# Altium integrated library Celestial Library.IntLib: 629 symbols (part 13 of 28)

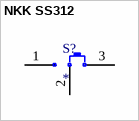
[diagram p276: symbol NKK SS312]

## NKK SS312
designator S?
pins: 1, 2 COM, 3


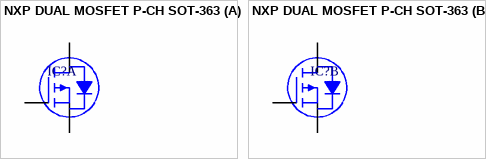
[diagram p277: symbol NXP DUAL MOSFET P-CH SOT-363]

## NXP DUAL MOSFET P-CH SOT-363
designator IC?
part A pins: 1 S1, 2 G1, 6 D1
part B pins: 3 D2, 4 S2, 5 G2


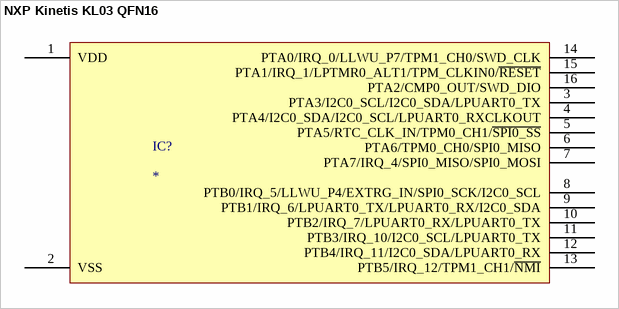
[diagram p278: symbol NXP Kinetis KL03 QFN16]

## NXP Kinetis KL03 QFN16
designator IC?
pins: 1 VDD, 2 VSS, 3 PTA3/I2C0_SCL/I2C0_SDA/LPUART0_TX, 4 PTA4/I2C0_SDA/I2C0_SCL/LPUART0_RXCLKOUT, 5 PTA5/RTC_CLK_IN/TPM0_CH1/~{SPI0_SS}, 6 PTA6/TPM0_CH0/SPI0_MISO, 7 PTA7/IRQ_4/SPI0_MISO/SPI0_MOSI, 8 PTB0/IRQ_5/LLWU_P4/EXTRG_IN/SPI0_SCK/I2C0_SCL, 9 PTB1/IRQ_6/LPUART0_TX/LPUART0_RX/I2C0_SDA, 10 PTB2/IRQ_7/LPUART0_RX/LPUART0_TX, 11 PTB3/IRQ_10/I2C0_SCL/LPUART0_TX, 12 PTB4/IRQ_11/I2C0_SDA/LPUART0_RX, 13 PTB5/IRQ_12/TPM1_CH1/~{NMI}, 14 PTA0/IRQ_0/LLWU_P7/TPM1_CH0/SWD_CLK, 15 PTA1/IRQ_1/LPTMR0_ALT1/TPM_CLKIN0/~{RESET}, 16 PTA2/CMP0_OUT/SWD_DIO


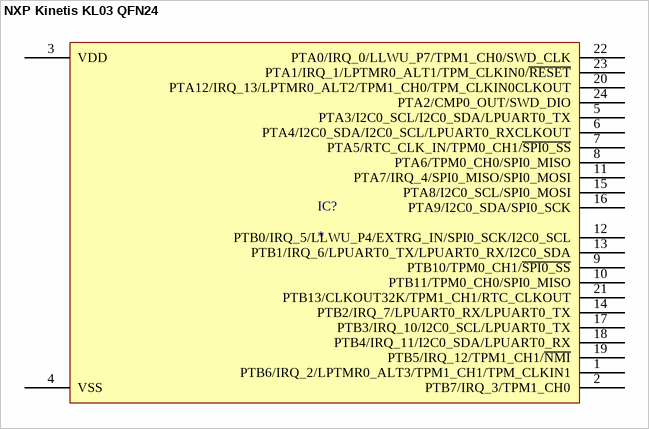
[diagram p279: symbol NXP Kinetis KL03 QFN24]

## NXP Kinetis KL03 QFN24
designator IC?
pins: 1 PTB6/IRQ_2/LPTMR0_ALT3/TPM1_CH1/TPM_CLKIN1, 2 PTB7/IRQ_3/TPM1_CH0, 3 VDD, 4 VSS, 5 PTA3/I2C0_SCL/I2C0_SDA/LPUART0_TX, 6 PTA4/I2C0_SDA/I2C0_SCL/LPUART0_RXCLKOUT, 7 PTA5/RTC_CLK_IN/TPM0_CH1/~{SPI0_SS}, 8 PTA6/TPM0_CH0/SPI0_MISO, 9 PTB10/TPM0_CH1/~{SPI0_SS}, 10 PTB11/TPM0_CH0/SPI0_MISO, 11 PTA7/IRQ_4/SPI0_MISO/SPI0_MOSI, 12 PTB0/IRQ_5/LLWU_P4/EXTRG_IN/SPI0_SCK/I2C0_SCL, 13 PTB1/IRQ_6/LPUART0_TX/LPUART0_RX/I2C0_SDA, 14 PTB2/IRQ_7/LPUART0_RX/LPUART0_TX, 15 PTA8/I2C0_SCL/SPI0_MOSI, 16 PTA9/I2C0_SDA/SPI0_SCK, 17 PTB3/IRQ_10/I2C0_SCL/LPUART0_TX, 18 PTB4/IRQ_11/I2C0_SDA/LPUART0_RX, 19 PTB5/IRQ_12/TPM1_CH1/~{NMI}, 20 PTA12/IRQ_13/LPTMR0_ALT2/TPM1_CH0/TPM_CLKIN0CLKOUT, 21 PTB13/CLKOUT32K/TPM1_CH1/RTC_CLKOUT, 22 PTA0/IRQ_0/LLWU_P7/TPM1_CH0/SWD_CLK, 23 PTA1/IRQ_1/LPTMR0_ALT1/TPM_CLKIN0/~{RESET}, 24 PTA2/CMP0_OUT/SWD_DIO


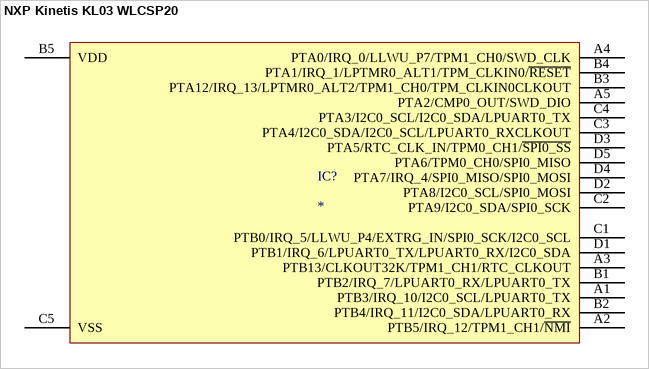
[diagram p280: symbol NXP Kinetis KL03 WLCSP20]

## NXP Kinetis KL03 WLCSP20
designator IC?
pins: A1 PTB3/IRQ_10/I2C0_SCL/LPUART0_TX, A2 PTB5/IRQ_12/TPM1_CH1/~{NMI}, A3 PTB13/CLKOUT32K/TPM1_CH1/RTC_CLKOUT, A4 PTA0/IRQ_0/LLWU_P7/TPM1_CH0/SWD_CLK, A5 PTA2/CMP0_OUT/SWD_DIO, B1 PTB2/IRQ_7/LPUART0_RX/LPUART0_TX, B2 PTB4/IRQ_11/I2C0_SDA/LPUART0_RX, B3 PTA12/IRQ_13/LPTMR0_ALT2/TPM1_CH0/TPM_CLKIN0CLKOUT, B4 PTA1/IRQ_1/LPTMR0_ALT1/TPM_CLKIN0/~{RESET}, B5 VDD, C1 PTB0/IRQ_5/LLWU_P4/EXTRG_IN/SPI0_SCK/I2C0_SCL, C2 PTA9/I2C0_SDA/SPI0_SCK, C3 PTA4/I2C0_SDA/I2C0_SCL/LPUART0_RXCLKOUT, C4 PTA3/I2C0_SCL/I2C0_SDA/LPUART0_TX, C5 VSS, D1 PTB1/IRQ_6/LPUART0_TX/LPUART0_RX/I2C0_SDA, D2 PTA8/I2C0_SCL/SPI0_MOSI, D3 PTA5/RTC_CLK_IN/TPM0_CH1/~{SPI0_SS}, D4 PTA7/IRQ_4/SPI0_MISO/SPI0_MOSI, D5 PTA6/TPM0_CH0/SPI0_MISO


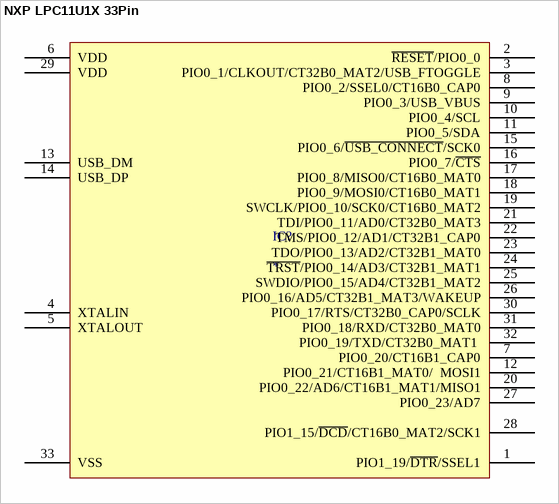
[diagram p281: symbol NXP LPC11U1X 33Pin]

## NXP LPC11U1X 33Pin
designator IC?
pins: 1 PIO1_19/~{DTR}/SSEL1, 2 ~{RESET}/PIO0_0, 3 PIO0_1/CLKOUT/CT32B0_MAT2/USB_FTOGGLE, 4 XTALIN, 5 XTALOUT, 6 VDD, 7 PIO0_20/CT16B1_CAP0, 8 PIO0_2/SSEL0/CT16B0_CAP0, 9 PIO0_3/USB_VBUS, 10 PIO0_4/SCL, 11 PIO0_5/SDA, 12 PIO0_21/CT16B1_MAT0/  MOSI1, 13 USB_DM, 14 USB_DP, 15 PIO0_6/~{USB_CONNECT}/SCK0, 16 PIO0_7/~{CTS}, 17 PIO0_8/MISO0/CT16B0_MAT0, 18 PIO0_9/MOSI0/CT16B0_MAT1, 19 SWCLK/PIO0_10/SCK0/CT16B0_MAT2, 20 PIO0_22/AD6/CT16B1_MAT1/MISO1, 21 TDI/PIO0_11/AD0/CT32B0_MAT3, 22 TMS/PIO0_12/AD1/CT32B1_CAP0, 23 TDO/PIO0_13/AD2/CT32B1_MAT0, 24 ~{TRST}/PIO0_14/AD3/CT32B1_MAT1, 25 SWDIO/PIO0_15/AD4/CT32B1_MAT2, 26 PIO0_16/AD5/CT32B1_MAT3/WAKEUP, 27 PIO0_23/AD7, 28 PIO1_15/~{DCD}/CT16B0_MAT2/SCK1, 29 VDD, 30 PIO0_17/RTS/CT32B0_CAP0/SCLK, 31 PIO0_18/RXD/CT32B0_MAT0, 32 PIO0_19/TXD/CT32B0_MAT1 , 33 VSS


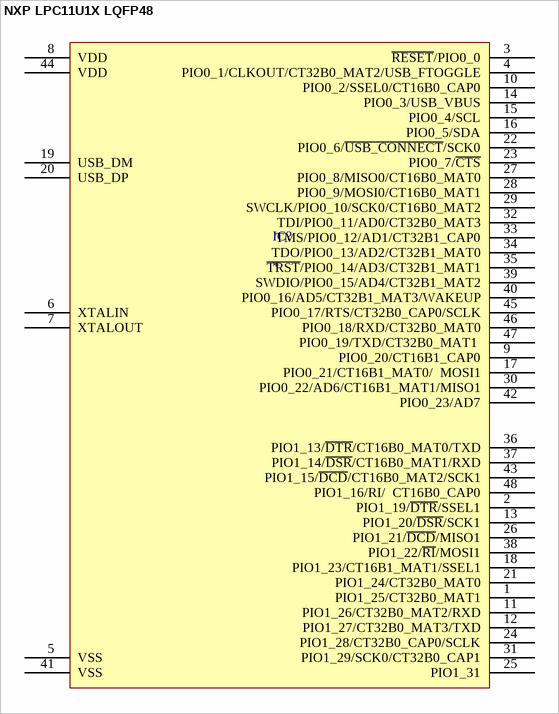
[diagram p282: symbol NXP LPC11U1X LQFP48]

## NXP LPC11U1X LQFP48
designator IC?
pins: 1 PIO1_25/CT32B0_MAT1, 2 PIO1_19/~{DTR}/SSEL1, 3 ~{RESET}/PIO0_0, 4 PIO0_1/CLKOUT/CT32B0_MAT2/USB_FTOGGLE, 5 VSS, 6 XTALIN, 7 XTALOUT, 8 VDD, 9 PIO0_20/CT16B1_CAP0, 10 PIO0_2/SSEL0/CT16B0_CAP0, 11 PIO1_26/CT32B0_MAT2/RXD, 12 PIO1_27/CT32B0_MAT3/TXD, 13 PIO1_20/~{DSR}/SCK1, 14 PIO0_3/USB_VBUS, 15 PIO0_4/SCL, 16 PIO0_5/SDA, 17 PIO0_21/CT16B1_MAT0/  MOSI1, 18 PIO1_23/CT16B1_MAT1/SSEL1, 19 USB_DM, 20 USB_DP, 21 PIO1_24/CT32B0_MAT0, 22 PIO0_6/~{USB_CONNECT}/SCK0, 23 PIO0_7/~{CTS}, 24 PIO1_28/CT32B0_CAP0/SCLK, 25 PIO1_31, 26 PIO1_21/~{DCD}/MISO1, 27 PIO0_8/MISO0/CT16B0_MAT0, 28 PIO0_9/MOSI0/CT16B0_MAT1, 29 SWCLK/PIO0_10/SCK0/CT16B0_MAT2, 30 PIO0_22/AD6/CT16B1_MAT1/MISO1, 31 PIO1_29/SCK0/CT32B0_CAP1, 32 TDI/PIO0_11/AD0/CT32B0_MAT3, 33 TMS/PIO0_12/AD1/CT32B1_CAP0, 34 TDO/PIO0_13/AD2/CT32B1_MAT0, 35 ~{TRST}/PIO0_14/AD3/CT32B1_MAT1, 36 PIO1_13/~{DTR}/CT16B0_MAT0/TXD, 37 PIO1_14/~{DSR}/CT16B0_MAT1/RXD, 38 PIO1_22/~{RI}/MOSI1, 39 SWDIO/PIO0_15/AD4/CT32B1_MAT2, 40 PIO0_16/AD5/CT32B1_MAT3/WAKEUP, 41 VSS, 42 PIO0_23/AD7, 43 PIO1_15/~{DCD}/CT16B0_MAT2/SCK1, 44 VDD, 45 PIO0_17/RTS/CT32B0_CAP0/SCLK, 46 PIO0_18/RXD/CT32B0_MAT0, 47 PIO0_19/TXD/CT32B0_MAT1 , 48 PIO1_16/RI/  CT16B0_CAP0


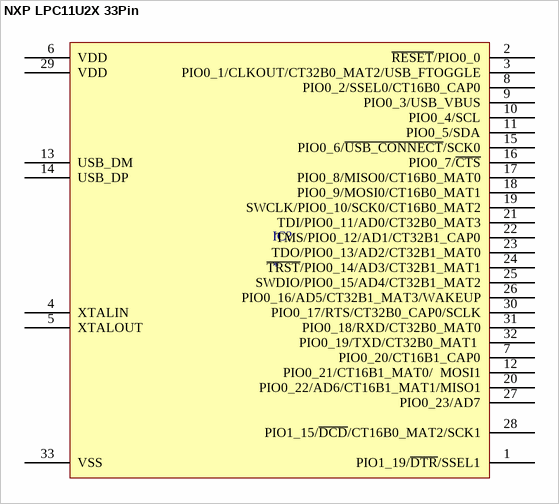
[diagram p283: symbol NXP LPC11U2X 33Pin]

## NXP LPC11U2X 33Pin
designator IC?
pins: 1 PIO1_19/~{DTR}/SSEL1, 2 ~{RESET}/PIO0_0, 3 PIO0_1/CLKOUT/CT32B0_MAT2/USB_FTOGGLE, 4 XTALIN, 5 XTALOUT, 6 VDD, 7 PIO0_20/CT16B1_CAP0, 8 PIO0_2/SSEL0/CT16B0_CAP0, 9 PIO0_3/USB_VBUS, 10 PIO0_4/SCL, 11 PIO0_5/SDA, 12 PIO0_21/CT16B1_MAT0/  MOSI1, 13 USB_DM, 14 USB_DP, 15 PIO0_6/~{USB_CONNECT}/SCK0, 16 PIO0_7/~{CTS}, 17 PIO0_8/MISO0/CT16B0_MAT0, 18 PIO0_9/MOSI0/CT16B0_MAT1, 19 SWCLK/PIO0_10/SCK0/CT16B0_MAT2, 20 PIO0_22/AD6/CT16B1_MAT1/MISO1, 21 TDI/PIO0_11/AD0/CT32B0_MAT3, 22 TMS/PIO0_12/AD1/CT32B1_CAP0, 23 TDO/PIO0_13/AD2/CT32B1_MAT0, 24 ~{TRST}/PIO0_14/AD3/CT32B1_MAT1, 25 SWDIO/PIO0_15/AD4/CT32B1_MAT2, 26 PIO0_16/AD5/CT32B1_MAT3/WAKEUP, 27 PIO0_23/AD7, 28 PIO1_15/~{DCD}/CT16B0_MAT2/SCK1, 29 VDD, 30 PIO0_17/RTS/CT32B0_CAP0/SCLK, 31 PIO0_18/RXD/CT32B0_MAT0, 32 PIO0_19/TXD/CT32B0_MAT1 , 33 VSS


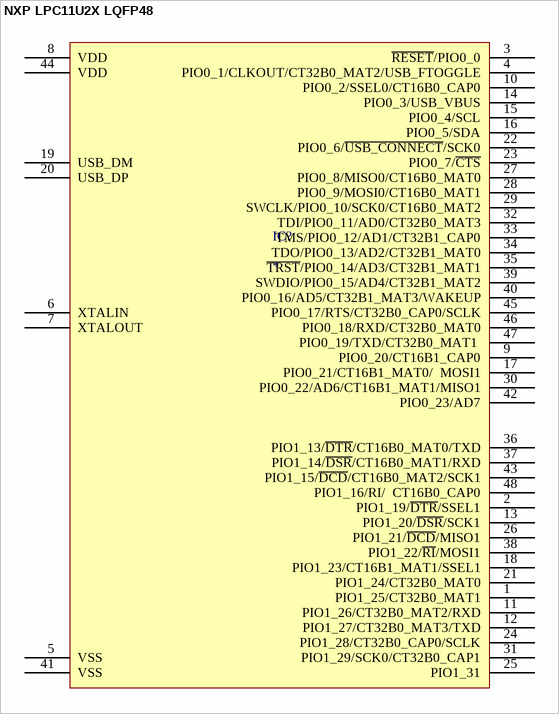
[diagram p284: symbol NXP LPC11U2X LQFP48]

## NXP LPC11U2X LQFP48
designator IC?
pins: 1 PIO1_25/CT32B0_MAT1, 2 PIO1_19/~{DTR}/SSEL1, 3 ~{RESET}/PIO0_0, 4 PIO0_1/CLKOUT/CT32B0_MAT2/USB_FTOGGLE, 5 VSS, 6 XTALIN, 7 XTALOUT, 8 VDD, 9 PIO0_20/CT16B1_CAP0, 10 PIO0_2/SSEL0/CT16B0_CAP0, 11 PIO1_26/CT32B0_MAT2/RXD, 12 PIO1_27/CT32B0_MAT3/TXD, 13 PIO1_20/~{DSR}/SCK1, 14 PIO0_3/USB_VBUS, 15 PIO0_4/SCL, 16 PIO0_5/SDA, 17 PIO0_21/CT16B1_MAT0/  MOSI1, 18 PIO1_23/CT16B1_MAT1/SSEL1, 19 USB_DM, 20 USB_DP, 21 PIO1_24/CT32B0_MAT0, 22 PIO0_6/~{USB_CONNECT}/SCK0, 23 PIO0_7/~{CTS}, 24 PIO1_28/CT32B0_CAP0/SCLK, 25 PIO1_31, 26 PIO1_21/~{DCD}/MISO1, 27 PIO0_8/MISO0/CT16B0_MAT0, 28 PIO0_9/MOSI0/CT16B0_MAT1, 29 SWCLK/PIO0_10/SCK0/CT16B0_MAT2, 30 PIO0_22/AD6/CT16B1_MAT1/MISO1, 31 PIO1_29/SCK0/CT32B0_CAP1, 32 TDI/PIO0_11/AD0/CT32B0_MAT3, 33 TMS/PIO0_12/AD1/CT32B1_CAP0, 34 TDO/PIO0_13/AD2/CT32B1_MAT0, 35 ~{TRST}/PIO0_14/AD3/CT32B1_MAT1, 36 PIO1_13/~{DTR}/CT16B0_MAT0/TXD, 37 PIO1_14/~{DSR}/CT16B0_MAT1/RXD, 38 PIO1_22/~{RI}/MOSI1, 39 SWDIO/PIO0_15/AD4/CT32B1_MAT2, 40 PIO0_16/AD5/CT32B1_MAT3/WAKEUP, 41 VSS, 42 PIO0_23/AD7, 43 PIO1_15/~{DCD}/CT16B0_MAT2/SCK1, 44 VDD, 45 PIO0_17/RTS/CT32B0_CAP0/SCLK, 46 PIO0_18/RXD/CT32B0_MAT0, 47 PIO0_19/TXD/CT32B0_MAT1 , 48 PIO1_16/RI/  CT16B0_CAP0


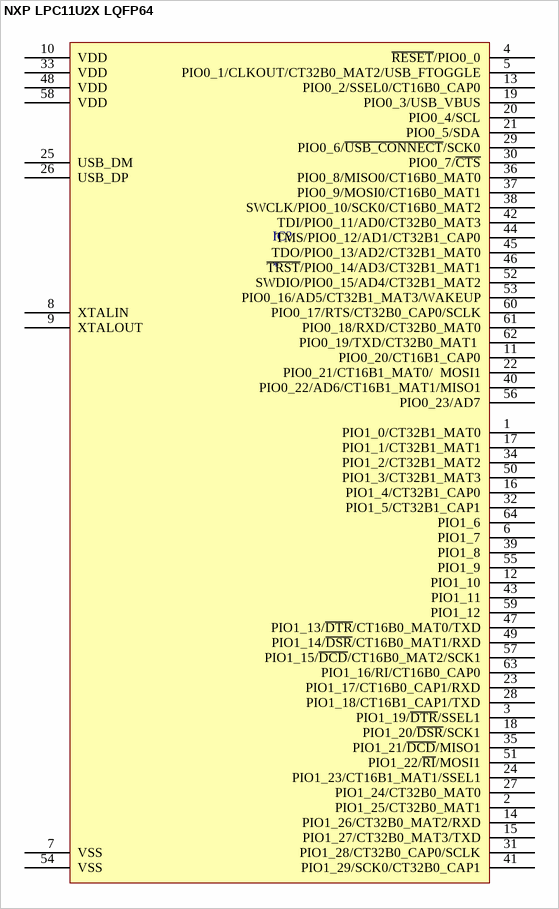
[diagram p285: symbol NXP LPC11U2X LQFP64]

## NXP LPC11U2X LQFP64
designator IC?
pins: 1 PIO1_0/CT32B1_MAT0, 2 PIO1_25/CT32B0_MAT1, 3 PIO1_19/~{DTR}/SSEL1, 4 ~{RESET}/PIO0_0, 5 PIO0_1/CLKOUT/CT32B0_MAT2/USB_FTOGGLE, 6 PIO1_7, 7 VSS, 8 XTALIN, 9 XTALOUT, 10 VDD, 11 PIO0_20/CT16B1_CAP0, 12 PIO1_10, 13 PIO0_2/SSEL0/CT16B0_CAP0, 14 PIO1_26/CT32B0_MAT2/RXD, 15 PIO1_27/CT32B0_MAT3/TXD, 16 PIO1_4/CT32B1_CAP0, 17 PIO1_1/CT32B1_MAT1, 18 PIO1_20/~{DSR}/SCK1, 19 PIO0_3/USB_VBUS, 20 PIO0_4/SCL, 21 PIO0_5/SDA, 22 PIO0_21/CT16B1_MAT0/  MOSI1, 23 PIO1_17/CT16B0_CAP1/RXD, 24 PIO1_23/CT16B1_MAT1/SSEL1, 25 USB_DM, 26 USB_DP, 27 PIO1_24/CT32B0_MAT0, 28 PIO1_18/CT16B1_CAP1/TXD, 29 PIO0_6/~{USB_CONNECT}/SCK0, 30 PIO0_7/~{CTS}, 31 PIO1_28/CT32B0_CAP0/SCLK, 32 PIO1_5/CT32B1_CAP1, 33 VDD, 34 PIO1_2/CT32B1_MAT2, 35 PIO1_21/~{DCD}/MISO1, 36 PIO0_8/MISO0/CT16B0_MAT0, 37 PIO0_9/MOSI0/CT16B0_MAT1, 38 SWCLK/PIO0_10/SCK0/CT16B0_MAT2, 39 PIO1_8, 40 PIO0_22/AD6/CT16B1_MAT1/MISO1, 41 PIO1_29/SCK0/CT32B0_CAP1, 42 TDI/PIO0_11/AD0/CT32B0_MAT3, 43 PIO1_11, 44 TMS/PIO0_12/AD1/CT32B1_CAP0, 45 TDO/PIO0_13/AD2/CT32B1_MAT0, 46 ~{TRST}/PIO0_14/AD3/CT32B1_MAT1, 47 PIO1_13/~{DTR}/CT16B0_MAT0/TXD, 48 VDD, 49 PIO1_14/~{DSR}/CT16B0_MAT1/RXD, 50 PIO1_3/CT32B1_MAT3, 51 PIO1_22/~{RI}/MOSI1, 52 SWDIO/PIO0_15/AD4/CT32B1_MAT2, 53 PIO0_16/AD5/CT32B1_MAT3/WAKEUP, 54 VSS, 55 PIO1_9, 56 PIO0_23/AD7, 57 PIO1_15/~{DCD}/CT16B0_MAT2/SCK1, 58 VDD, 59 PIO1_12, 60 PIO0_17/RTS/CT32B0_CAP0/SCLK, 61 PIO0_18/RXD/CT32B0_MAT0, 62 PIO0_19/TXD/CT32B0_MAT1 , 63 PIO1_16/RI/CT16B0_CAP0, 64 PIO1_6


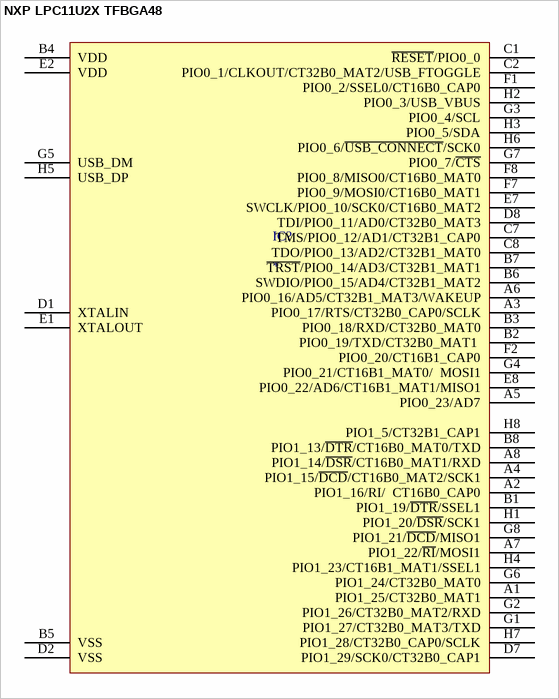
[diagram p286: symbol NXP LPC11U2X TFBGA48]

## NXP LPC11U2X TFBGA48
designator IC?
pins: A1 PIO1_25/CT32B0_MAT1, A2 PIO1_16/RI/  CT16B0_CAP0, A3 PIO0_17/RTS/CT32B0_CAP0/SCLK, A4 PIO1_15/~{DCD}/CT16B0_MAT2/SCK1, A5 PIO0_23/AD7, A6 PIO0_16/AD5/CT32B1_MAT3/WAKEUP, A7 PIO1_22/~{RI}/MOSI1, A8 PIO1_14/~{DSR}/CT16B0_MAT1/RXD, B1 PIO1_19/~{DTR}/SSEL1, B2 PIO0_19/TXD/CT32B0_MAT1 , B3 PIO0_18/RXD/CT32B0_MAT0, B4 VDD, B5 VSS, B6 SWDIO/PIO0_15/AD4/CT32B1_MAT2, B7 ~{TRST}/PIO0_14/AD3/CT32B1_MAT1, B8 PIO1_13/~{DTR}/CT16B0_MAT0/TXD, C1 ~{RESET}/PIO0_0, C2 PIO0_1/CLKOUT/CT32B0_MAT2/USB_FTOGGLE, C7 TMS/PIO0_12/AD1/CT32B1_CAP0, C8 TDO/PIO0_13/AD2/CT32B1_MAT0, D1 XTALIN, D2 VSS, D7 PIO1_29/SCK0/CT32B0_CAP1, D8 TDI/PIO0_11/AD0/CT32B0_MAT3, E1 XTALOUT, E2 VDD, E7 SWCLK/PIO0_10/SCK0/CT16B0_MAT2, E8 PIO0_22/AD6/CT16B1_MAT1/MISO1, F1 PIO0_2/SSEL0/CT16B0_CAP0, F2 PIO0_20/CT16B1_CAP0, F7 PIO0_9/MOSI0/CT16B0_MAT1, F8 PIO0_8/MISO0/CT16B0_MAT0, G1 PIO1_27/CT32B0_MAT3/TXD, G2 PIO1_26/CT32B0_MAT2/RXD, G3 PIO0_4/SCL, G4 PIO0_21/CT16B1_MAT0/  MOSI1, G5 USB_DM, G6 PIO1_24/CT32B0_MAT0, G7 PIO0_7/~{CTS}, G8 PIO1_21/~{DCD}/MISO1, H1 PIO1_20/~{DSR}/SCK1, H2 PIO0_3/USB_VBUS, H3 PIO0_5/SDA, H4 PIO1_23/CT16B1_MAT1/SSEL1, H5 USB_DP, H6 PIO0_6/~{USB_CONNECT}/SCK0, H7 PIO1_28/CT32B0_CAP0/SCLK, H8 PIO1_5/CT32B1_CAP1


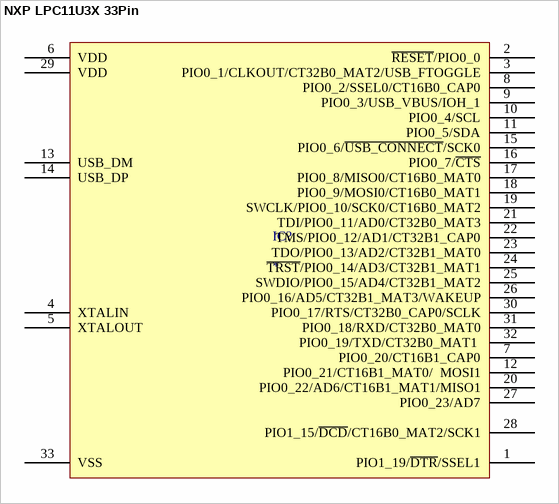
[diagram p287: symbol NXP LPC11U3X 33Pin]

## NXP LPC11U3X 33Pin
designator IC?
pins: 1 PIO1_19/~{DTR}/SSEL1, 2 ~{RESET}/PIO0_0, 3 PIO0_1/CLKOUT/CT32B0_MAT2/USB_FTOGGLE, 4 XTALIN, 5 XTALOUT, 6 VDD, 7 PIO0_20/CT16B1_CAP0, 8 PIO0_2/SSEL0/CT16B0_CAP0, 9 PIO0_3/USB_VBUS/IOH_1, 10 PIO0_4/SCL, 11 PIO0_5/SDA, 12 PIO0_21/CT16B1_MAT0/  MOSI1, 13 USB_DM, 14 USB_DP, 15 PIO0_6/~{USB_CONNECT}/SCK0, 16 PIO0_7/~{CTS}, 17 PIO0_8/MISO0/CT16B0_MAT0, 18 PIO0_9/MOSI0/CT16B0_MAT1, 19 SWCLK/PIO0_10/SCK0/CT16B0_MAT2, 20 PIO0_22/AD6/CT16B1_MAT1/MISO1, 21 TDI/PIO0_11/AD0/CT32B0_MAT3, 22 TMS/PIO0_12/AD1/CT32B1_CAP0, 23 TDO/PIO0_13/AD2/CT32B1_MAT0, 24 ~{TRST}/PIO0_14/AD3/CT32B1_MAT1, 25 SWDIO/PIO0_15/AD4/CT32B1_MAT2, 26 PIO0_16/AD5/CT32B1_MAT3/WAKEUP, 27 PIO0_23/AD7, 28 PIO1_15/~{DCD}/CT16B0_MAT2/SCK1, 29 VDD, 30 PIO0_17/RTS/CT32B0_CAP0/SCLK, 31 PIO0_18/RXD/CT32B0_MAT0, 32 PIO0_19/TXD/CT32B0_MAT1 , 33 VSS


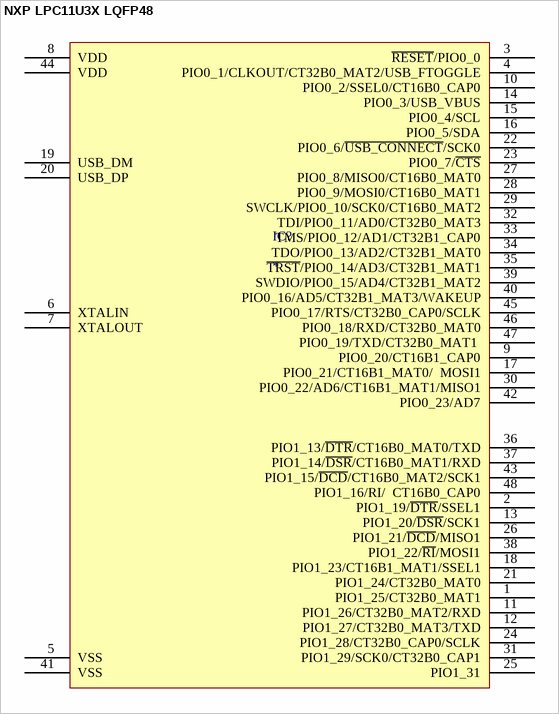
[diagram p288: symbol NXP LPC11U3X LQFP48]

## NXP LPC11U3X LQFP48
designator IC?
pins: 1 PIO1_25/CT32B0_MAT1, 2 PIO1_19/~{DTR}/SSEL1, 3 ~{RESET}/PIO0_0, 4 PIO0_1/CLKOUT/CT32B0_MAT2/USB_FTOGGLE, 5 VSS, 6 XTALIN, 7 XTALOUT, 8 VDD, 9 PIO0_20/CT16B1_CAP0, 10 PIO0_2/SSEL0/CT16B0_CAP0, 11 PIO1_26/CT32B0_MAT2/RXD, 12 PIO1_27/CT32B0_MAT3/TXD, 13 PIO1_20/~{DSR}/SCK1, 14 PIO0_3/USB_VBUS, 15 PIO0_4/SCL, 16 PIO0_5/SDA, 17 PIO0_21/CT16B1_MAT0/  MOSI1, 18 PIO1_23/CT16B1_MAT1/SSEL1, 19 USB_DM, 20 USB_DP, 21 PIO1_24/CT32B0_MAT0, 22 PIO0_6/~{USB_CONNECT}/SCK0, 23 PIO0_7/~{CTS}, 24 PIO1_28/CT32B0_CAP0/SCLK, 25 PIO1_31, 26 PIO1_21/~{DCD}/MISO1, 27 PIO0_8/MISO0/CT16B0_MAT0, 28 PIO0_9/MOSI0/CT16B0_MAT1, 29 SWCLK/PIO0_10/SCK0/CT16B0_MAT2, 30 PIO0_22/AD6/CT16B1_MAT1/MISO1, 31 PIO1_29/SCK0/CT32B0_CAP1, 32 TDI/PIO0_11/AD0/CT32B0_MAT3, 33 TMS/PIO0_12/AD1/CT32B1_CAP0, 34 TDO/PIO0_13/AD2/CT32B1_MAT0, 35 ~{TRST}/PIO0_14/AD3/CT32B1_MAT1, 36 PIO1_13/~{DTR}/CT16B0_MAT0/TXD, 37 PIO1_14/~{DSR}/CT16B0_MAT1/RXD, 38 PIO1_22/~{RI}/MOSI1, 39 SWDIO/PIO0_15/AD4/CT32B1_MAT2, 40 PIO0_16/AD5/CT32B1_MAT3/WAKEUP, 41 VSS, 42 PIO0_23/AD7, 43 PIO1_15/~{DCD}/CT16B0_MAT2/SCK1, 44 VDD, 45 PIO0_17/RTS/CT32B0_CAP0/SCLK, 46 PIO0_18/RXD/CT32B0_MAT0, 47 PIO0_19/TXD/CT32B0_MAT1 , 48 PIO1_16/RI/  CT16B0_CAP0


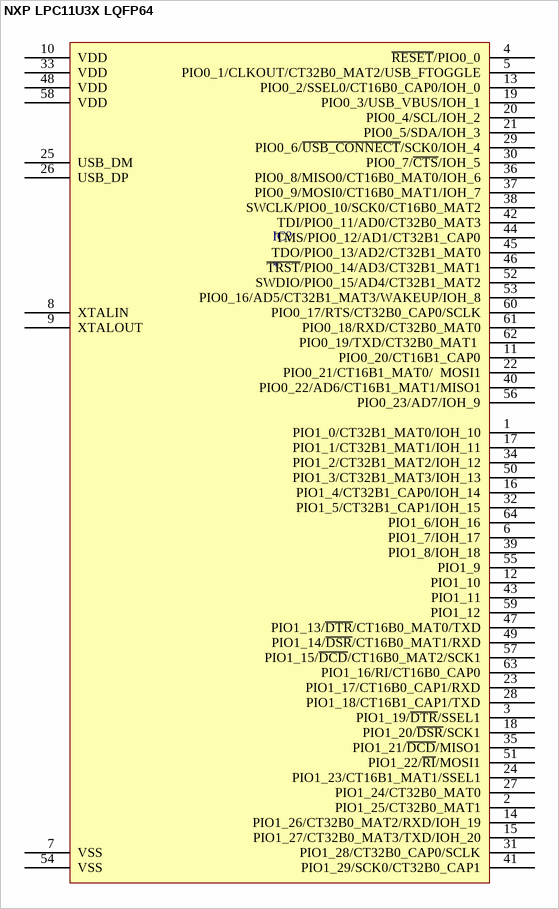
[diagram p289: symbol NXP LPC11U3X LQFP64]

## NXP LPC11U3X LQFP64
designator IC?
pins: 1 PIO1_0/CT32B1_MAT0/IOH_10, 2 PIO1_25/CT32B0_MAT1, 3 PIO1_19/~{DTR}/SSEL1, 4 ~{RESET}/PIO0_0, 5 PIO0_1/CLKOUT/CT32B0_MAT2/USB_FTOGGLE, 6 PIO1_7/IOH_17, 7 VSS, 8 XTALIN, 9 XTALOUT, 10 VDD, 11 PIO0_20/CT16B1_CAP0, 12 PIO1_10, 13 PIO0_2/SSEL0/CT16B0_CAP0/IOH_0, 14 PIO1_26/CT32B0_MAT2/RXD/IOH_19, 15 PIO1_27/CT32B0_MAT3/TXD/IOH_20, 16 PIO1_4/CT32B1_CAP0/IOH_14, 17 PIO1_1/CT32B1_MAT1/IOH_11, 18 PIO1_20/~{DSR}/SCK1, 19 PIO0_3/USB_VBUS/IOH_1, 20 PIO0_4/SCL/IOH_2, 21 PIO0_5/SDA/IOH_3, 22 PIO0_21/CT16B1_MAT0/  MOSI1, 23 PIO1_17/CT16B0_CAP1/RXD, 24 PIO1_23/CT16B1_MAT1/SSEL1, 25 USB_DM, 26 USB_DP, 27 PIO1_24/CT32B0_MAT0, 28 PIO1_18/CT16B1_CAP1/TXD, 29 PIO0_6/~{USB_CONNECT}/SCK0/IOH_4, 30 PIO0_7/~{CTS}/IOH_5, 31 PIO1_28/CT32B0_CAP0/SCLK, 32 PIO1_5/CT32B1_CAP1/IOH_15, 33 VDD, 34 PIO1_2/CT32B1_MAT2/IOH_12, 35 PIO1_21/~{DCD}/MISO1, 36 PIO0_8/MISO0/CT16B0_MAT0/IOH_6, 37 PIO0_9/MOSI0/CT16B0_MAT1/IOH_7, 38 SWCLK/PIO0_10/SCK0/CT16B0_MAT2, 39 PIO1_8/IOH_18, 40 PIO0_22/AD6/CT16B1_MAT1/MISO1, 41 PIO1_29/SCK0/CT32B0_CAP1, 42 TDI/PIO0_11/AD0/CT32B0_MAT3, 43 PIO1_11, 44 TMS/PIO0_12/AD1/CT32B1_CAP0, 45 TDO/PIO0_13/AD2/CT32B1_MAT0, 46 ~{TRST}/PIO0_14/AD3/CT32B1_MAT1, 47 PIO1_13/~{DTR}/CT16B0_MAT0/TXD, 48 VDD, 49 PIO1_14/~{DSR}/CT16B0_MAT1/RXD, 50 PIO1_3/CT32B1_MAT3/IOH_13, 51 PIO1_22/~{RI}/MOSI1, 52 SWDIO/PIO0_15/AD4/CT32B1_MAT2, 53 PIO0_16/AD5/CT32B1_MAT3/WAKEUP/IOH_8, 54 VSS, 55 PIO1_9, 56 PIO0_23/AD7/IOH_9, 57 PIO1_15/~{DCD}/CT16B0_MAT2/SCK1, 58 VDD, 59 PIO1_12, 60 PIO0_17/RTS/CT32B0_CAP0/SCLK, 61 PIO0_18/RXD/CT32B0_MAT0, 62 PIO0_19/TXD/CT32B0_MAT1 , 63 PIO1_16/RI/CT16B0_CAP0, 64 PIO1_6/IOH_16


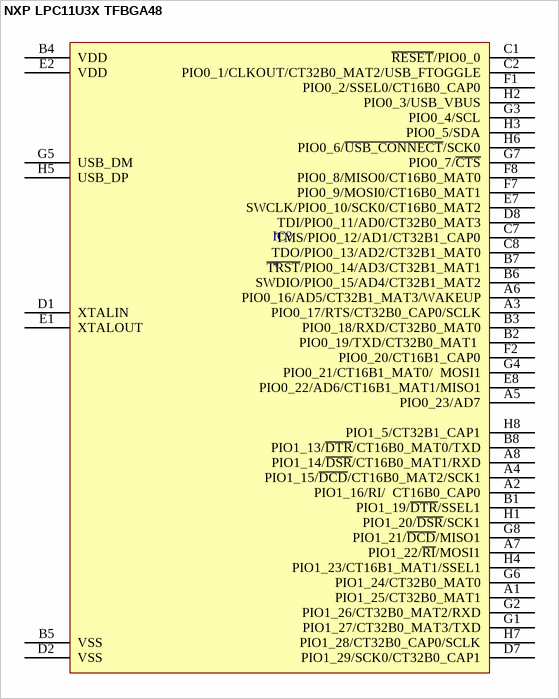
[diagram p290: symbol NXP LPC11U3X TFBGA48]

## NXP LPC11U3X TFBGA48
designator IC?
pins: A1 PIO1_25/CT32B0_MAT1, A2 PIO1_16/RI/  CT16B0_CAP0, A3 PIO0_17/RTS/CT32B0_CAP0/SCLK, A4 PIO1_15/~{DCD}/CT16B0_MAT2/SCK1, A5 PIO0_23/AD7, A6 PIO0_16/AD5/CT32B1_MAT3/WAKEUP, A7 PIO1_22/~{RI}/MOSI1, A8 PIO1_14/~{DSR}/CT16B0_MAT1/RXD, B1 PIO1_19/~{DTR}/SSEL1, B2 PIO0_19/TXD/CT32B0_MAT1 , B3 PIO0_18/RXD/CT32B0_MAT0, B4 VDD, B5 VSS, B6 SWDIO/PIO0_15/AD4/CT32B1_MAT2, B7 ~{TRST}/PIO0_14/AD3/CT32B1_MAT1, B8 PIO1_13/~{DTR}/CT16B0_MAT0/TXD, C1 ~{RESET}/PIO0_0, C2 PIO0_1/CLKOUT/CT32B0_MAT2/USB_FTOGGLE, C7 TMS/PIO0_12/AD1/CT32B1_CAP0, C8 TDO/PIO0_13/AD2/CT32B1_MAT0, D1 XTALIN, D2 VSS, D7 PIO1_29/SCK0/CT32B0_CAP1, D8 TDI/PIO0_11/AD0/CT32B0_MAT3, E1 XTALOUT, E2 VDD, E7 SWCLK/PIO0_10/SCK0/CT16B0_MAT2, E8 PIO0_22/AD6/CT16B1_MAT1/MISO1, F1 PIO0_2/SSEL0/CT16B0_CAP0, F2 PIO0_20/CT16B1_CAP0, F7 PIO0_9/MOSI0/CT16B0_MAT1, F8 PIO0_8/MISO0/CT16B0_MAT0, G1 PIO1_27/CT32B0_MAT3/TXD, G2 PIO1_26/CT32B0_MAT2/RXD, G3 PIO0_4/SCL, G4 PIO0_21/CT16B1_MAT0/  MOSI1, G5 USB_DM, G6 PIO1_24/CT32B0_MAT0, G7 PIO0_7/~{CTS}, G8 PIO1_21/~{DCD}/MISO1, H1 PIO1_20/~{DSR}/SCK1, H2 PIO0_3/USB_VBUS, H3 PIO0_5/SDA, H4 PIO1_23/CT16B1_MAT1/SSEL1, H5 USB_DP, H6 PIO0_6/~{USB_CONNECT}/SCK0, H7 PIO1_28/CT32B0_CAP0/SCLK, H8 PIO1_5/CT32B1_CAP1


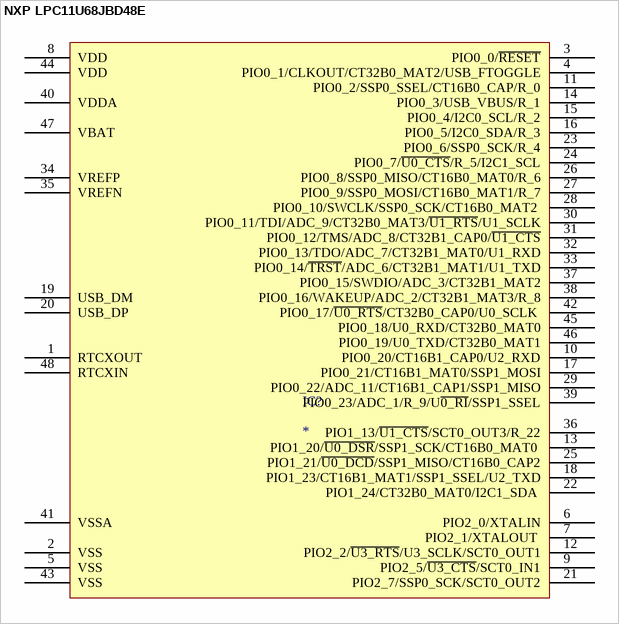
[diagram p291: symbol NXP LPC11U68JBD48E]

## NXP LPC11U68JBD48E
designator IC?
pins: 1 RTCXOUT, 2 VSS, 3 PIO0_0/~{RESET}, 4 PIO0_1/CLKOUT/CT32B0_MAT2/USB_FTOGGLE, 5 VSS, 6 PIO2_0/XTALIN, 7 PIO2_1/XTALOUT , 8 VDD, 9 PIO2_5/~{U3_CTS}/SCT0_IN1, 10 PIO0_20/CT16B1_CAP0/U2_RXD, 11 PIO0_2/SSP0_SSEL/CT16B0_CAP/R_0, 12 PIO2_2/~{U3_RTS}/U3_SCLK/SCT0_OUT1, 13 PIO1_20/~{U0_DSR}/SSP1_SCK/CT16B0_MAT0 , 14 PIO0_3/USB_VBUS/R_1, 15 PIO0_4/I2C0_SCL/R_2, 16 PIO0_5/I2C0_SDA/R_3, 17 PIO0_21/CT16B1_MAT0/SSP1_MOSI, 18 PIO1_23/CT16B1_MAT1/SSP1_SSEL/U2_TXD, 19 USB_DM, 20 USB_DP, 21 PIO2_7/SSP0_SCK/SCT0_OUT2, 22 PIO1_24/CT32B0_MAT0/I2C1_SDA , 23 PIO0_6/SSP0_SCK/R_4, 24 PIO0_7/~{U0_CTS}/R_5/I2C1_SCL, 25 PIO1_21/~{U0_DCD}/SSP1_MISO/CT16B0_CAP2, 26 PIO0_8/SSP0_MISO/CT16B0_MAT0/R_6, 27 PIO0_9/SSP0_MOSI/CT16B0_MAT1/R_7, 28 PIO0_10/SWCLK/SSP0_SCK/CT16B0_MAT2 , 29 PIO0_22/ADC_11/CT16B1_CAP1/SSP1_MISO, 30 PIO0_11/TDI/ADC_9/CT32B0_MAT3/~{U1_RTS}/U1_SCLK, 31 PIO0_12/TMS/ADC_8/CT32B1_CAP0/~{U1_CTS}, 32 PIO0_13/TDO/ADC_7/CT32B1_MAT0/U1_RXD, 33 PIO0_14/~{TRST}/ADC_6/CT32B1_MAT1/U1_TXD, 34 VREFP, 35 VREFN, 36 PIO1_13/~{U1_CTS}/SCT0_OUT3/R_22, 37 PIO0_15/SWDIO/ADC_3/CT32B1_MAT2, 38 PIO0_16/WAKEUP/ADC_2/CT32B1_MAT3/R_8, 39 PIO0_23/ADC_1/R_9/U~{0_RI}/SSP1_SSEL, 40 VDDA, 41 VSSA, 42 PIO0_17/~{U0_RTS}/CT32B0_CAP0/U0_SCLK , 43 VSS, 44 VDD, 45 PIO0_18/U0_RXD/CT32B0_MAT0, 46 PIO0_19/U0_TXD/CT32B0_MAT1, 47 VBAT, 48 RTCXIN


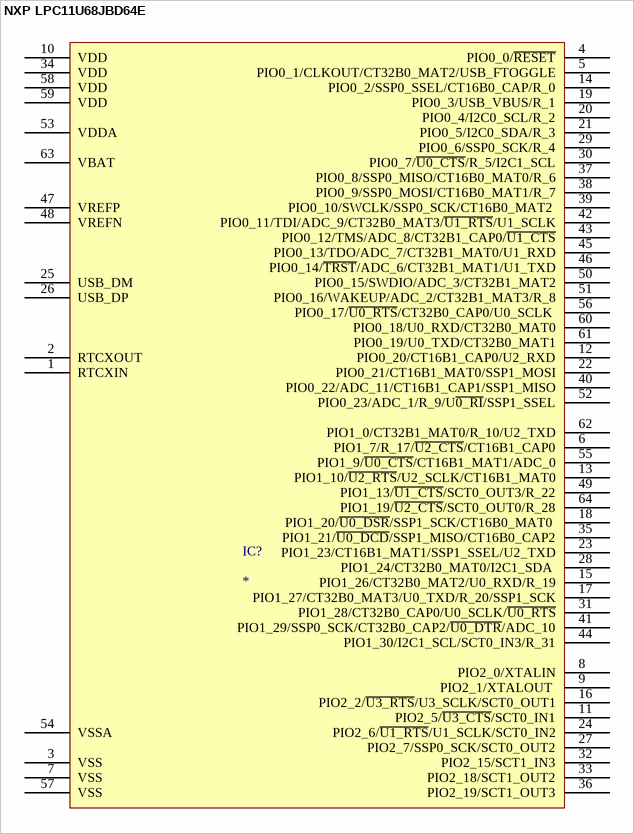
[diagram p292: symbol NXP LPC11U68JBD64E]

## NXP LPC11U68JBD64E
designator IC?
pins: 1 RTCXIN, 2 RTCXOUT, 3 VSS, 4 PIO0_0/~{RESET}, 5 PIO0_1/CLKOUT/CT32B0_MAT2/USB_FTOGGLE, 6 PIO1_7/R_17/~{U2_CTS}/CT16B1_CAP0, 7 VSS, 8 PIO2_0/XTALIN, 9 PIO2_1/XTALOUT , 10 VDD, 11 PIO2_5/~{U3_CTS}/SCT0_IN1, 12 PIO0_20/CT16B1_CAP0/U2_RXD, 13 PIO1_10/~{U2_RTS}/U2_SCLK/CT16B1_MAT0, 14 PIO0_2/SSP0_SSEL/CT16B0_CAP/R_0, 15 PIO1_26/CT32B0_MAT2/U0_RXD/R_19, 16 PIO2_2/~{U3_RTS}/U3_SCLK/SCT0_OUT1, 17 PIO1_27/CT32B0_MAT3/U0_TXD/R_20/SSP1_SCK, 18 PIO1_20/~{U0_DSR}/SSP1_SCK/CT16B0_MAT0 , 19 PIO0_3/USB_VBUS/R_1, 20 PIO0_4/I2C0_SCL/R_2, 21 PIO0_5/I2C0_SDA/R_3, 22 PIO0_21/CT16B1_MAT0/SSP1_MOSI, 23 PIO1_23/CT16B1_MAT1/SSP1_SSEL/U2_TXD, 24 PIO2_6/~{U1_RTS}/U1_SCLK/SCT0_IN2, 25 USB_DM, 26 USB_DP, 27 PIO2_7/SSP0_SCK/SCT0_OUT2, 28 PIO1_24/CT32B0_MAT0/I2C1_SDA , 29 PIO0_6/SSP0_SCK/R_4, 30 PIO0_7/~{U0_CTS}/R_5/I2C1_SCL, 31 PIO1_28/CT32B0_CAP0/U0_SCLK/~{U0_RTS}, 32 PIO2_15/SCT1_IN3, 33 PIO2_18/SCT1_OUT2, 34 VDD, 35 PIO1_21/~{U0_DCD}/SSP1_MISO/CT16B0_CAP2, 36 PIO2_19/SCT1_OUT3, 37 PIO0_8/SSP0_MISO/CT16B0_MAT0/R_6, 38 PIO0_9/SSP0_MOSI/CT16B0_MAT1/R_7, 39 PIO0_10/SWCLK/SSP0_SCK/CT16B0_MAT2 , 40 PIO0_22/ADC_11/CT16B1_CAP1/SSP1_MISO, 41 PIO1_29/SSP0_SCK/CT32B0_CAP2/~{U0_DTR}/ADC_10, 42 PIO0_11/TDI/ADC_9/CT32B0_MAT3/~{U1_RTS}/U1_SCLK, 43 PIO0_12/TMS/ADC_8/CT32B1_CAP0/~{U1_CTS}, 44 PIO1_30/I2C1_SCL/SCT0_IN3/R_31, 45 PIO0_13/TDO/ADC_7/CT32B1_MAT0/U1_RXD, 46 PIO0_14/~{TRST}/ADC_6/CT32B1_MAT1/U1_TXD, 47 VREFP, 48 VREFN, 49 PIO1_13/~{U1_CTS}/SCT0_OUT3/R_22, 50 PIO0_15/SWDIO/ADC_3/CT32B1_MAT2, 51 PIO0_16/WAKEUP/ADC_2/CT32B1_MAT3/R_8, 52 PIO0_23/ADC_1/R_9/U~{0_RI}/SSP1_SSEL, 53 VDDA, 54 VSSA, 55 PIO1_9/~{U0_CTS}/CT16B1_MAT1/ADC_0, 56 PIO0_17/~{U0_RTS}/CT32B0_CAP0/U0_SCLK , 57 VSS, 58 VDD, 59 VDD, 60 PIO0_18/U0_RXD/CT32B0_MAT0, 61 PIO0_19/U0_TXD/CT32B0_MAT1, 62 PIO1_0/CT32B1_MAT0/R_10/U2_TXD, 63 VBAT, 64 PIO1_19/~{U2_CTS}/SCT0_OUT0/R_28


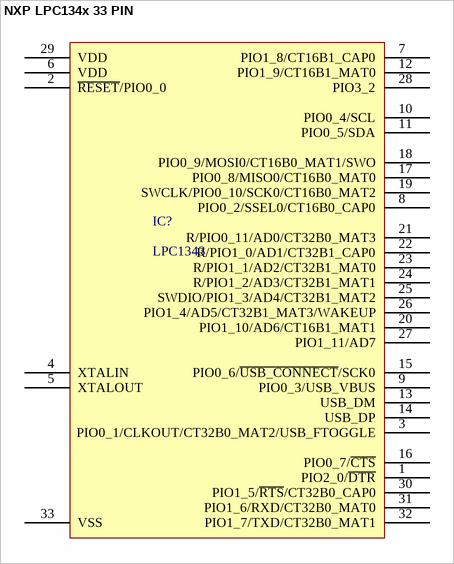
[diagram p293: symbol NXP LPC134x 33 PIN]

## NXP LPC134x 33 PIN
designator IC?, comment LPC1343
32-bit ARM Cortex-M3 microcontroller; up to 32kB flash and 8kB SRAM; USB device
pins: 1 PIO2_0/~{DTR}, 2 ~{RESET}/PIO0_0, 3 PIO0_1/CLKOUT/CT32B0_MAT2/USB_FTOGGLE, 4 XTALIN, 5 XTALOUT, 6 VDD, 7 PIO1_8/CT16B1_CAP0, 8 PIO0_2/SSEL0/CT16B0_CAP0, 9 PIO0_3/USB_VBUS, 10 PIO0_4/SCL, 11 PIO0_5/SDA, 12 PIO1_9/CT16B1_MAT0, 13 USB_DM, 14 USB_DP, 15 PIO0_6/~{USB_CONNECT}/SCK0, 16 PIO0_7/~{CTS}, 17 PIO0_8/MISO0/CT16B0_MAT0, 18 PIO0_9/MOSI0/CT16B0_MAT1/SWO, 19 SWCLK/PIO0_10/SCK0/CT16B0_MAT2, 20 PIO1_10/AD6/CT16B1_MAT1, 21 R/PIO0_11/AD0/CT32B0_MAT3, 22 R/PIO1_0/AD1/CT32B1_CAP0, 23 R/PIO1_1/AD2/CT32B1_MAT0, 24 R/PIO1_2/AD3/CT32B1_MAT1, 25 SWDIO/PIO1_3/AD4/CT32B1_MAT2, 26 PIO1_4/AD5/CT32B1_MAT3/WAKEUP, 27 PIO1_11/AD7, 28 PIO3_2, 29 VDD, 30 PIO1_5/~{RTS}/CT32B0_CAP0, 31 PIO1_6/RXD/CT32B0_MAT0, 32 PIO1_7/TXD/CT32B0_MAT1, 33 VSS


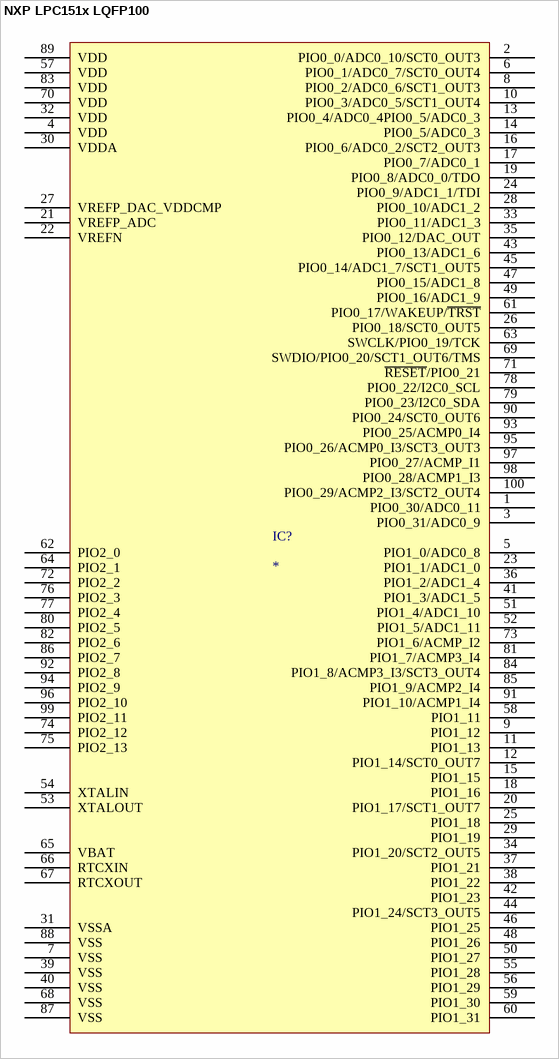
[diagram p294: symbol NXP LPC151x LQFP100]

## NXP LPC151x LQFP100
designator IC?
pins: 1 PIO0_30/ADC0_11, 2 PIO0_0/ADC0_10/SCT0_OUT3, 3 PIO0_31/ADC0_9, 4 VDD, 5 PIO1_0/ADC0_8, 6 PIO0_1/ADC0_7/SCT0_OUT4, 7 VSS, 8 PIO0_2/ADC0_6/SCT1_OUT3, 9 PIO1_12, 10 PIO0_3/ADC0_5/SCT1_OUT4, 11 PIO1_13, 12 PIO1_14/SCT0_OUT7, 13 PIO0_4/ADC0_4PIO0_5/ADC0_3, 14 PIO0_5/ADC0_3, 15 PIO1_15, 16 PIO0_6/ADC0_2/SCT2_OUT3, 17 PIO0_7/ADC0_1, 18 PIO1_16, 19 PIO0_8/ADC0_0/TDO, 20 PIO1_17/SCT1_OUT7, 21 VREFP_ADC, 22 VREFN, 23 PIO1_1/ADC1_0, 24 PIO0_9/ADC1_1/TDI, 25 PIO1_18, 26 PIO0_18/SCT0_OUT5, 27 VREFP_DAC_VDDCMP, 28 PIO0_10/ADC1_2, 29 PIO1_19, 30 VDDA, 31 VSSA, 32 VDD, 33 PIO0_11/ADC1_3, 34 PIO1_20/SCT2_OUT5, 35 PIO0_12/DAC_OUT, 36 PIO1_2/ADC1_4, 37 PIO1_21, 38 PIO1_22, 39 VSS, 40 VSS, 41 PIO1_3/ADC1_5, 42 PIO1_23, 43 PIO0_13/ADC1_6, 44 PIO1_24/SCT3_OUT5, 45 PIO0_14/ADC1_7/SCT1_OUT5, 46 PIO1_25, 47 PIO0_15/ADC1_8, 48 PIO1_26, 49 PIO0_16/ADC1_9, 50 PIO1_27, 51 PIO1_4/ADC1_10, 52 PIO1_5/ADC1_11, 53 XTALOUT, 54 XTALIN, 55 PIO1_28, 56 PIO1_29, 57 VDD, 58 PIO1_11, 59 PIO1_30, 60 PIO1_31, 61 PIO0_17/WAKEUP/~{TRST}, 62 PIO2_0, 63 SWCLK/PIO0_19/TCK, 64 PIO2_1, 65 VBAT, 66 RTCXIN, 67 RTCXOUT, 68 VSS, 69 SWDIO/PIO0_20/SCT1_OUT6/TMS, 70 VDD, 71 ~{RESET}/PIO0_21, 72 PIO2_2, 73 PIO1_6/ACMP_I2, 74 PIO2_12, 75 PIO2_13, 76 PIO2_3, 77 PIO2_4, 78 PIO0_22/I2C0_SCL, 79 PIO0_23/I2C0_SDA, 80 PIO2_5, 81 PIO1_7/ACMP3_I4, 82 PIO2_6, 83 VDD, 84 PIO1_8/ACMP3_I3/SCT3_OUT4, 85 PIO1_9/ACMP2_I4, 86 PIO2_7, 87 VSS, 88 VSS, 89 VDD, 90 PIO0_24/SCT0_OUT6, 91 PIO1_10/ACMP1_I4, 92 PIO2_8, 93 PIO0_25/ACMP0_I4, 94 PIO2_9, 95 PIO0_26/ACMP0_I3/SCT3_OUT3, 96 PIO2_10, 97 PIO0_27/ACMP_I1, 98 PIO0_28/ACMP1_I3, 99 PIO2_11, 100 PIO0_29/ACMP2_I3/SCT2_OUT4


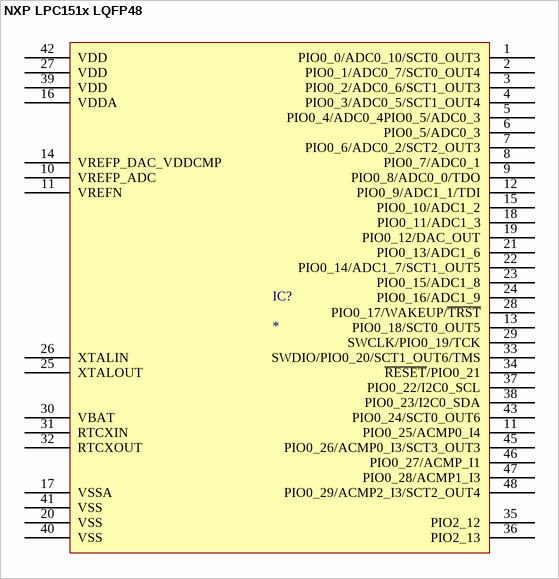
[diagram p295: symbol NXP LPC151x LQFP48]

## NXP LPC151x LQFP48
designator IC?
pins: 1 PIO0_0/ADC0_10/SCT0_OUT3, 2 PIO0_1/ADC0_7/SCT0_OUT4, 3 PIO0_2/ADC0_6/SCT1_OUT3, 4 PIO0_3/ADC0_5/SCT1_OUT4, 5 PIO0_4/ADC0_4PIO0_5/ADC0_3, 6 PIO0_5/ADC0_3, 7 PIO0_6/ADC0_2/SCT2_OUT3, 8 PIO0_7/ADC0_1, 9 PIO0_8/ADC0_0/TDO, 10 VREFP_ADC, 11 PIO0_25/ACMP0_I4, 11 VREFN, 12 PIO0_9/ADC1_1/TDI, 13 PIO0_18/SCT0_OUT5, 14 VREFP_DAC_VDDCMP, 15 PIO0_10/ADC1_2, 16 VDDA, 17 VSSA, 18 PIO0_11/ADC1_3, 19 PIO0_12/DAC_OUT, 20 VSS, 21 PIO0_13/ADC1_6, 22 PIO0_14/ADC1_7/SCT1_OUT5, 23 PIO0_15/ADC1_8, 24 PIO0_16/ADC1_9, 25 XTALOUT, 26 XTALIN, 27 VDD, 28 PIO0_17/WAKEUP/~{TRST}, 29 SWCLK/PIO0_19/TCK, 30 VBAT, 31 RTCXIN, 32 RTCXOUT, 33 SWDIO/PIO0_20/SCT1_OUT6/TMS, 34 ~{RESET}/PIO0_21, 35 PIO2_12, 36 PIO2_13, 37 PIO0_22/I2C0_SCL, 38 PIO0_23/I2C0_SDA, 39 VDD, 40 VSS, 41 VSS, 42 VDD, 43 PIO0_24/SCT0_OUT6, 45 PIO0_26/ACMP0_I3/SCT3_OUT3, 46 PIO0_27/ACMP_I1, 47 PIO0_28/ACMP1_I3, 48 PIO0_29/ACMP2_I3/SCT2_OUT4


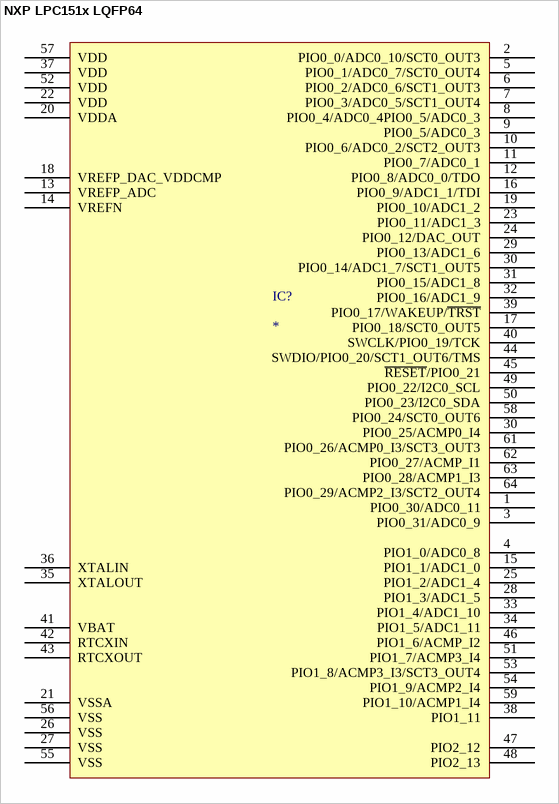
[diagram p296: symbol NXP LPC151x LQFP64]

## NXP LPC151x LQFP64
designator IC?
pins: 1 PIO0_30/ADC0_11, 2 PIO0_0/ADC0_10/SCT0_OUT3, 3 PIO0_31/ADC0_9, 4 PIO1_0/ADC0_8, 5 PIO0_1/ADC0_7/SCT0_OUT4, 6 PIO0_2/ADC0_6/SCT1_OUT3, 7 PIO0_3/ADC0_5/SCT1_OUT4, 8 PIO0_4/ADC0_4PIO0_5/ADC0_3, 9 PIO0_5/ADC0_3, 10 PIO0_6/ADC0_2/SCT2_OUT3, 11 PIO0_7/ADC0_1, 12 PIO0_8/ADC0_0/TDO, 13 VREFP_ADC, 14 VREFN, 15 PIO1_1/ADC1_0, 16 PIO0_9/ADC1_1/TDI, 17 PIO0_18/SCT0_OUT5, 18 VREFP_DAC_VDDCMP, 19 PIO0_10/ADC1_2, 20 VDDA, 21 VSSA, 22 VDD, 23 PIO0_11/ADC1_3, 24 PIO0_12/DAC_OUT, 25 PIO1_2/ADC1_4, 26 VSS, 27 VSS, 28 PIO1_3/ADC1_5, 29 PIO0_13/ADC1_6, 30 PIO0_14/ADC1_7/SCT1_OUT5, 30 PIO0_25/ACMP0_I4, 31 PIO0_15/ADC1_8, 32 PIO0_16/ADC1_9, 33 PIO1_4/ADC1_10, 34 PIO1_5/ADC1_11, 35 XTALOUT, 36 XTALIN, 37 VDD, 38 PIO1_11, 39 PIO0_17/WAKEUP/~{TRST}, 40 SWCLK/PIO0_19/TCK, 41 VBAT, 42 RTCXIN, 43 RTCXOUT, 44 SWDIO/PIO0_20/SCT1_OUT6/TMS, 45 ~{RESET}/PIO0_21, 46 PIO1_6/ACMP_I2, 47 PIO2_12, 48 PIO2_13, 49 PIO0_22/I2C0_SCL, 50 PIO0_23/I2C0_SDA, 51 PIO1_7/ACMP3_I4, 52 VDD, 53 PIO1_8/ACMP3_I3/SCT3_OUT4, 54 PIO1_9/ACMP2_I4, 55 VSS, 56 VSS, 57 VDD, 58 PIO0_24/SCT0_OUT6, 59 PIO1_10/ACMP1_I4, 61 PIO0_26/ACMP0_I3/SCT3_OUT3, 62 PIO0_27/ACMP_I1, 63 PIO0_28/ACMP1_I3, 64 PIO0_29/ACMP2_I3/SCT2_OUT4


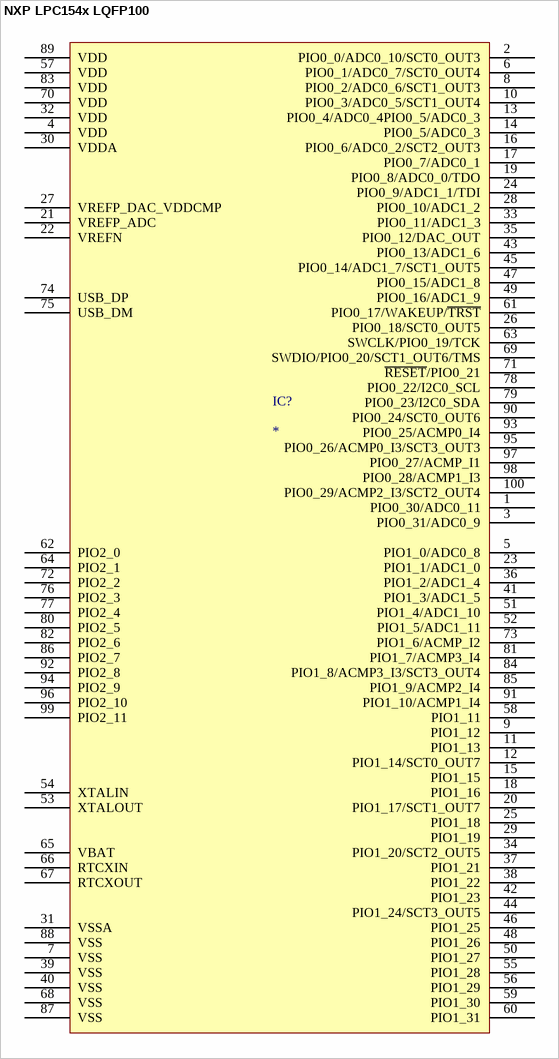
[diagram p297: symbol NXP LPC154x LQFP100]

## NXP LPC154x LQFP100
designator IC?
pins: 1 PIO0_30/ADC0_11, 2 PIO0_0/ADC0_10/SCT0_OUT3, 3 PIO0_31/ADC0_9, 4 VDD, 5 PIO1_0/ADC0_8, 6 PIO0_1/ADC0_7/SCT0_OUT4, 7 VSS, 8 PIO0_2/ADC0_6/SCT1_OUT3, 9 PIO1_12, 10 PIO0_3/ADC0_5/SCT1_OUT4, 11 PIO1_13, 12 PIO1_14/SCT0_OUT7, 13 PIO0_4/ADC0_4PIO0_5/ADC0_3, 14 PIO0_5/ADC0_3, 15 PIO1_15, 16 PIO0_6/ADC0_2/SCT2_OUT3, 17 PIO0_7/ADC0_1, 18 PIO1_16, 19 PIO0_8/ADC0_0/TDO, 20 PIO1_17/SCT1_OUT7, 21 VREFP_ADC, 22 VREFN, 23 PIO1_1/ADC1_0, 24 PIO0_9/ADC1_1/TDI, 25 PIO1_18, 26 PIO0_18/SCT0_OUT5, 27 VREFP_DAC_VDDCMP, 28 PIO0_10/ADC1_2, 29 PIO1_19, 30 VDDA, 31 VSSA, 32 VDD, 33 PIO0_11/ADC1_3, 34 PIO1_20/SCT2_OUT5, 35 PIO0_12/DAC_OUT, 36 PIO1_2/ADC1_4, 37 PIO1_21, 38 PIO1_22, 39 VSS, 40 VSS, 41 PIO1_3/ADC1_5, 42 PIO1_23, 43 PIO0_13/ADC1_6, 44 PIO1_24/SCT3_OUT5, 45 PIO0_14/ADC1_7/SCT1_OUT5, 46 PIO1_25, 47 PIO0_15/ADC1_8, 48 PIO1_26, 49 PIO0_16/ADC1_9, 50 PIO1_27, 51 PIO1_4/ADC1_10, 52 PIO1_5/ADC1_11, 53 XTALOUT, 54 XTALIN, 55 PIO1_28, 56 PIO1_29, 57 VDD, 58 PIO1_11, 59 PIO1_30, 60 PIO1_31, 61 PIO0_17/WAKEUP/~{TRST}, 62 PIO2_0, 63 SWCLK/PIO0_19/TCK, 64 PIO2_1, 65 VBAT, 66 RTCXIN, 67 RTCXOUT, 68 VSS, 69 SWDIO/PIO0_20/SCT1_OUT6/TMS, 70 VDD, 71 ~{RESET}/PIO0_21, 72 PIO2_2, 73 PIO1_6/ACMP_I2, 74 USB_DP, 75 USB_DM, 76 PIO2_3, 77 PIO2_4, 78 PIO0_22/I2C0_SCL, 79 PIO0_23/I2C0_SDA, 80 PIO2_5, 81 PIO1_7/ACMP3_I4, 82 PIO2_6, 83 VDD, 84 PIO1_8/ACMP3_I3/SCT3_OUT4, 85 PIO1_9/ACMP2_I4, 86 PIO2_7, 87 VSS, 88 VSS, 89 VDD, 90 PIO0_24/SCT0_OUT6, 91 PIO1_10/ACMP1_I4, 92 PIO2_8, 93 PIO0_25/ACMP0_I4, 94 PIO2_9, 95 PIO0_26/ACMP0_I3/SCT3_OUT3, 96 PIO2_10, 97 PIO0_27/ACMP_I1, 98 PIO0_28/ACMP1_I3, 99 PIO2_11, 100 PIO0_29/ACMP2_I3/SCT2_OUT4


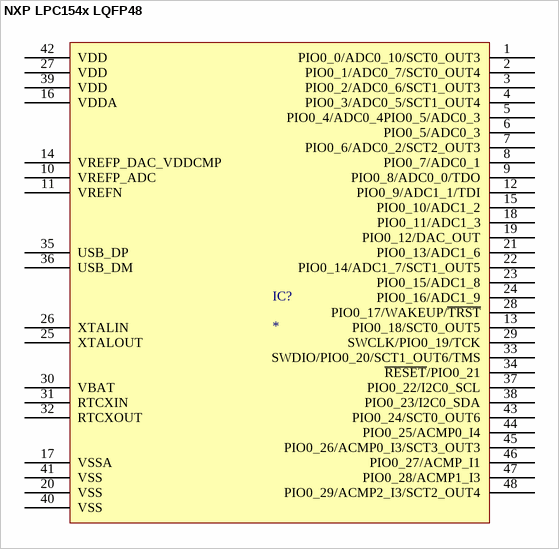
[diagram p298: symbol NXP LPC154x LQFP48]

## NXP LPC154x LQFP48
designator IC?
pins: 1 PIO0_0/ADC0_10/SCT0_OUT3, 2 PIO0_1/ADC0_7/SCT0_OUT4, 3 PIO0_2/ADC0_6/SCT1_OUT3, 4 PIO0_3/ADC0_5/SCT1_OUT4, 5 PIO0_4/ADC0_4PIO0_5/ADC0_3, 6 PIO0_5/ADC0_3, 7 PIO0_6/ADC0_2/SCT2_OUT3, 8 PIO0_7/ADC0_1, 9 PIO0_8/ADC0_0/TDO, 10 VREFP_ADC, 11 VREFN, 12 PIO0_9/ADC1_1/TDI, 13 PIO0_18/SCT0_OUT5, 14 VREFP_DAC_VDDCMP, 15 PIO0_10/ADC1_2, 16 VDDA, 17 VSSA, 18 PIO0_11/ADC1_3, 19 PIO0_12/DAC_OUT, 20 VSS, 21 PIO0_13/ADC1_6, 22 PIO0_14/ADC1_7/SCT1_OUT5, 23 PIO0_15/ADC1_8, 24 PIO0_16/ADC1_9, 25 XTALOUT, 26 XTALIN, 27 VDD, 28 PIO0_17/WAKEUP/~{TRST}, 29 SWCLK/PIO0_19/TCK, 30 VBAT, 31 RTCXIN, 32 RTCXOUT, 33 SWDIO/PIO0_20/SCT1_OUT6/TMS, 34 ~{RESET}/PIO0_21, 35 USB_DP, 36 USB_DM, 37 PIO0_22/I2C0_SCL, 38 PIO0_23/I2C0_SDA, 39 VDD, 40 VSS, 41 VSS, 42 VDD, 43 PIO0_24/SCT0_OUT6, 44 PIO0_25/ACMP0_I4, 45 PIO0_26/ACMP0_I3/SCT3_OUT3, 46 PIO0_27/ACMP_I1, 47 PIO0_28/ACMP1_I3, 48 PIO0_29/ACMP2_I3/SCT2_OUT4
